# Altium footprint library AlpLogo.PcbLib: 2 footprints
Each footprint in its own frame and in the unit in brackets; x right, y up, seen from the top. Pads: shape width x height; smd on the part's side, far side on the other; paste and mask are expansions set on the pad; w line width, h text height; cw(c..) or ccw(c..) is an arc to the next point about the centre after c.
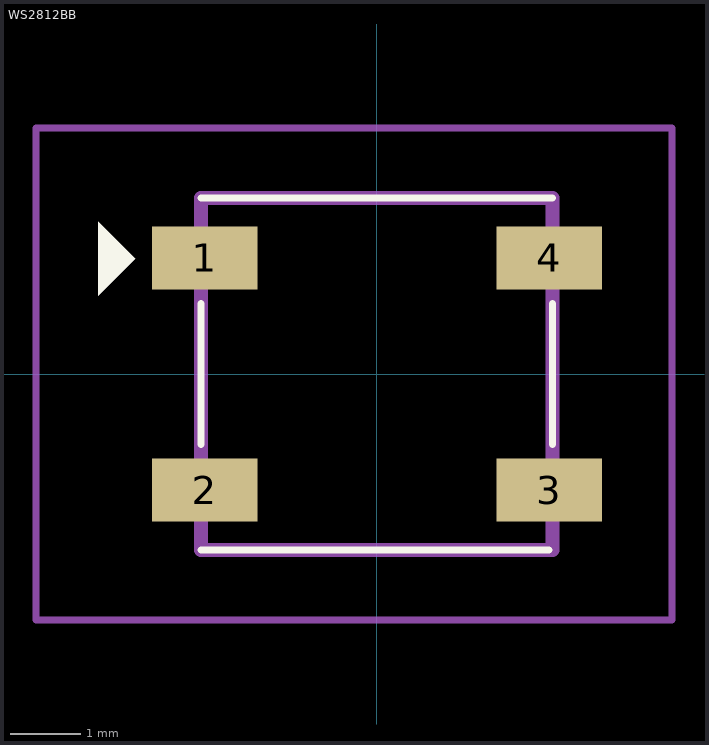
[diagram p0: the footprints below, top view; thin cyan lines are the x and y axes]

## PCBComponent_1 [mm]

## WS2812BB [mm]
pads (4):
  rect 1.5x0.9 smd: 1(-2.45,1.65) 2(-2.45,-1.65) 3(2.45,-1.65) 4(2.45,1.65)
Top Overlay:
  region: -3.437,1.637 -3.962,2.162 -3.962,1.112
  lines w0.1: -2.5,-2.5 2.45,-2.5 ; -2.5,-1 -2.5,1 ; -2.5,2.5 2.5,2.5 ; 2.5,-1 2.5,1
Mechanical 13:
  lines w0.2: -2.5,-2.5 -2.5,2.5 2.5,2.5 2.5,-2.5 -2.5,-2.5
Mechanical 15:
  lines w0.1: -4.85,-3.5 -4.85,3.5 4.2,3.5 4.2,-3.5 -4.85,-3.5
3D body "WS2812B-B.stp": height 2.65, standoff 0, extent -3.2,-2.5 3.2,2.5